# Altium schematic symbol library MCP9601.SchLib: 1 symbol
Pins are listed as number, name and electrical type; pins without a type are passive.

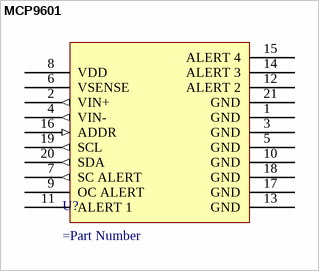
[diagram p0: symbol MCP9601]

## MCP9601
designator U?
=Description; Supplier 1: Digi-Key; Supplier Part Number 1: 150-MCP9601-E/MX-ND
pins: 1 GND, 2 VIN+ (out), 3 GND, 4 VIN- (out), 5 GND, 6 VSENSE, 7 SC ALERT (out), 8 VDD (power), 9 OC ALERT, 10 GND, 11 ALERT 1, 12 ALERT 2, 13 GND, 14 ALERT 3, 15 ALERT 4, 16 ADDR (in), 17 GND, 18 GND, 19 SCL (out), 20 SDA (out), 21 GND